# Altium schematic symbol library Interfaces.SchLib: 19 symbols
Pins are listed as number, name and electrical type; pins without a type are passive.

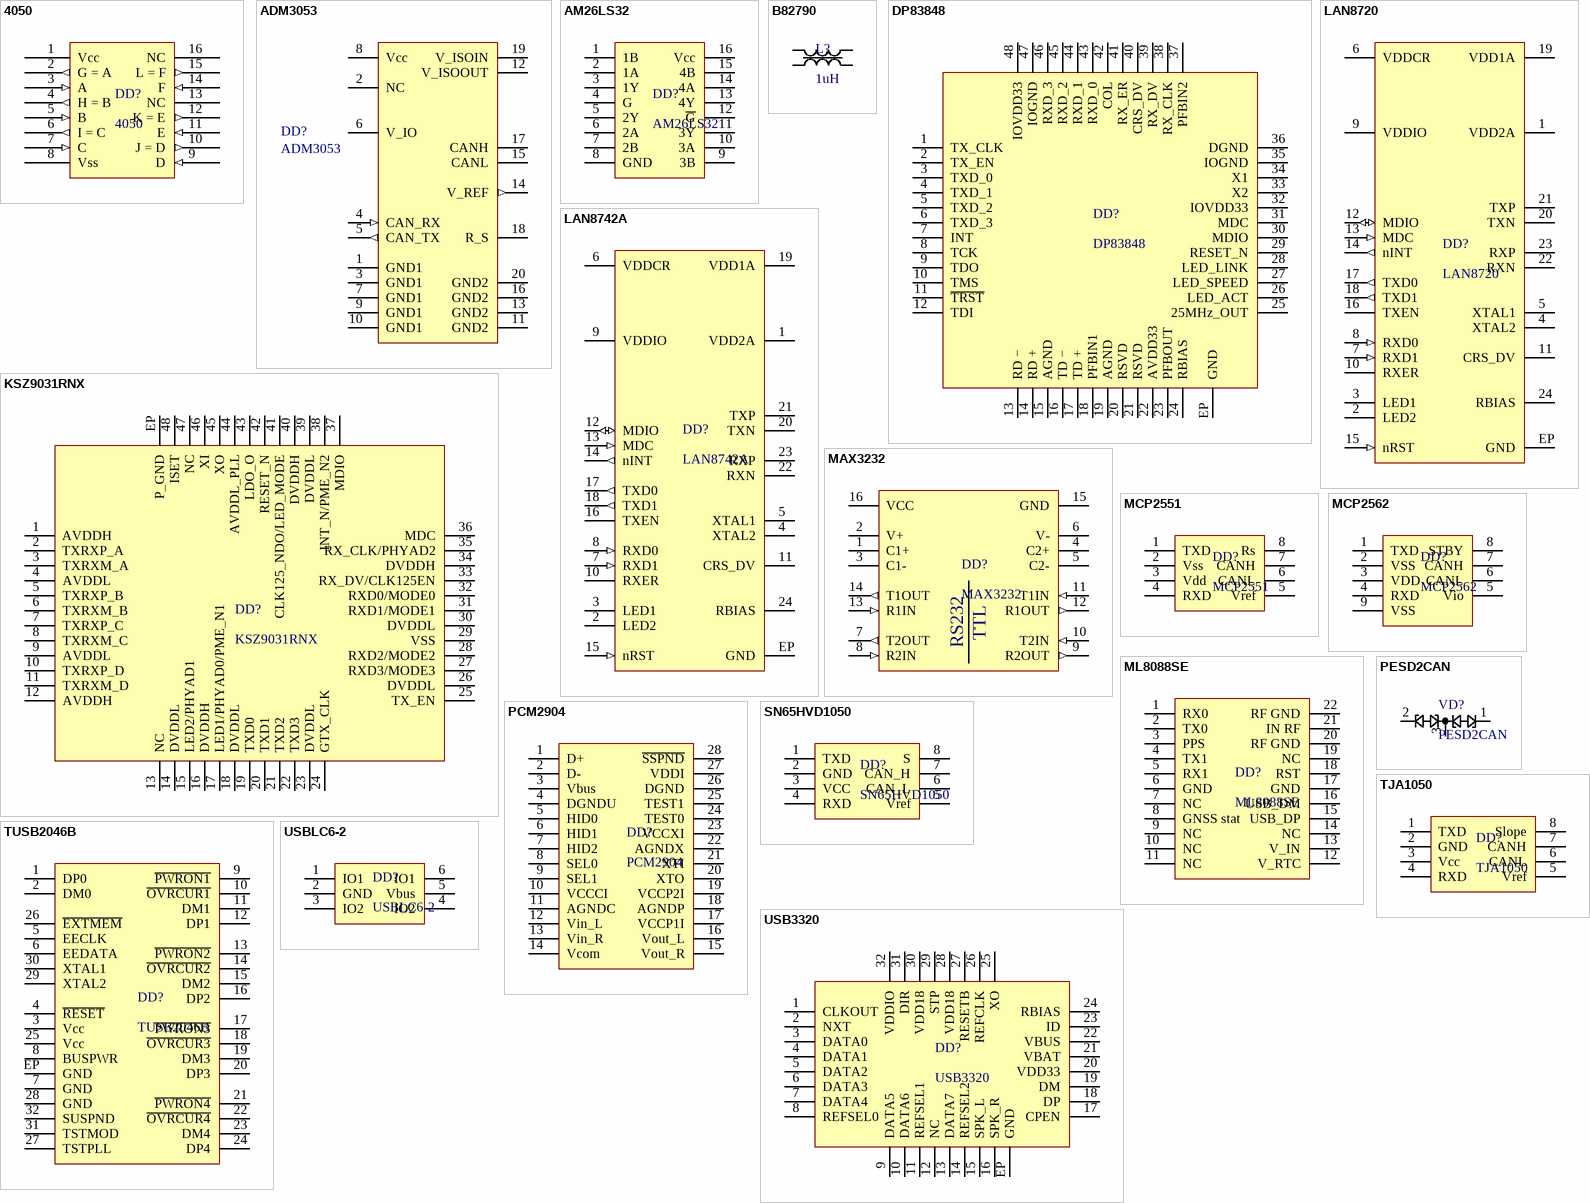
[diagram p0: symbols 4050 to USBLC6-2]

## 4050
designator DD?
6ch buffer
footprint SO-16
pins: 1 Vcc (power), 2 G = A (out), 3 A (in), 4 H = B (out), 5 B (in), 6 I = C (out), 7 C (in), 8 Vss (power), 9 D (in), 10 J = D (out), 11 E (in), 12 K = E (out), 13 NC, 14 F (in), 15 L = F (out), 16 NC

## ADM3053
designator DD?
Isolated CAN transceiver with isolated DC-DC
footprint SO-20W
pins: 1 GND1, 2 NC, 3 GND1, 4 CAN_RX (in), 5 CAN_TX (out), 6 V_IO, 7 GND1, 8 Vcc, 9 GND1, 10 GND1, 11 GND2, 12 V_ISOOUT, 13 GND2, 14 V_REF (out), 15 CANL, 16 GND2, 17 CANH, 18 R_S, 19 V_ISOIN, 20 GND2

## AM26LS32
designator DD?
RS-423 interface IC
footprint SO-16
pins: 1 1B (power), 2 1A (power), 3 1Y (power), 4 G (power), 5 2Y (power), 6 2A (power), 7 2B (power), 8 GND (power), 9 3B (power), 10 3A (power), 11 3Y (power), 12 ~{G} (power), 13 4Y (power), 14 4A (power), 15 4B (power), 16 Vcc (power)

## B82790
designator L?, comment 1uH
CAN double choke
footprint B82790
pins: 1, 2, 3, 4

## DP83848
designator DD?
Ethernet PHY
footprint PQFP-48
pins: 1 TX_CLK, 2 TX_EN, 3 TXD_0, 4 TXD_1, 5 TXD_2, 6 TXD_3, 7 INT, 8 TCK, 9 TDO, 10 TMS, 11 ~{TRST}, 12 TDI, 13 RD −, 14 RD +, 15 AGND, 16 TD −, 17 TD +, 18 PFBIN1, 19 AGND, 20 RSVD, 21 RSVD, 22 AVDD33, 23 PFBOUT, 24 RBIAS, 25 25MHz_OUT, 26 LED_ACT, 27 LED_SPEED, 28 LED_LINK, 29 RESET_N, 30 MDIO, 31 MDC, 32 IOVDD33, 33 X2, 34 X1, 35 IOGND, 36 DGND, 37 PFBIN2, 38 RX_CLK, 39 RX_DV, 40 CRS_DV, 41 RX_ER, 42 COL, 43 RXD_0, 44 RXD_1, 45 RXD_2, 46 RXD_3, 47 IOGND, 48 IOVDD33, EP GND

## KSZ9031RNX
designator DD?
Ethernet PHY 1Gbit/s
footprint QFN-48
pins: 1 AVDDH, 2 TXRXP_A, 3 TXRXM_A, 4 AVDDL, 5 TXRXP_B, 6 TXRXM_B, 7 TXRXP_C, 8 TXRXM_C, 9 AVDDL, 10 TXRXP_D, 11 TXRXM_D, 12 AVDDH, 13 NC, 14 DVDDL, 15 LED2/PHYAD1, 16 DVDDH, 17 LED1/PHYAD0/PME_N1, 18 DVDDL, 19 TXD0, 20 TXD1, 21 TXD2, 22 TXD3, 23 DVDDL, 24 GTX_CLK, 25 TX_EN, 26 DVDDL, 27 RXD3/MODE3, 28 RXD2/MODE2, 29 VSS, 30 DVDDL, 31 RXD1/MODE1, 32 RXD0/MODE0, 33 RX_DV/CLK125EN, 34 DVDDH, 35 RX_CLK/PHYAD2, 36 MDC, 37 MDIO, 38 INT_N/PME_N2, 39 DVDDL, 40 DVDDH, 41 CLK125_NDO/LED_MODE, 42 RESET_N, 43 LDO_O, 44 AVDDL_PLL, 45 XO, 46 XI, 47 NC, 48 ISET, EP P_GND

## LAN8720
designator DD?
Ethernet PHY
footprint QFN-24
pins: 1 VDD2A, 2 LED2, 3 LED1, 4 XTAL2, 5 XTAL1, 6 VDDCR, 7 RXD1 (in), 8 RXD0 (in), 9 VDDIO, 10 RXER, 11 CRS_DV, 12 MDIO (io), 13 MDC (in), 14 nINT (out), 15 nRST (in), 16 TXEN, 17 TXD0 (out), 18 TXD1 (out), 19 VDD1A, 20 TXN, 21 TXP, 22 RXN, 23 RXP, 24 RBIAS, EP GND

## LAN8742A
designator DD?
Ethernet PHY
footprint QFN-24
pins: 1 VDD2A, 2 LED2, 3 LED1, 4 XTAL2, 5 XTAL1, 6 VDDCR, 7 RXD1 (in), 8 RXD0 (in), 9 VDDIO, 10 RXER, 11 CRS_DV, 12 MDIO (io), 13 MDC (in), 14 nINT (out), 15 nRST (in), 16 TXEN, 17 TXD0 (out), 18 TXD1 (out), 19 VDD1A, 20 TXN, 21 TXP, 22 RXN, 23 RXP, 24 RBIAS, EP GND

## MAX3232
designator DD?
MAX3232 TTL/CMOS<-->RS-232
footprint TSSOP-16
pins: 1 C1+, 2 V+, 3 C1-, 4 C2+, 5 C2-, 6 V-, 7 T2OUT (out), 8 R2IN (in), 9 R2OUT (out), 10 T2IN (in), 11 T1IN (in), 12 R1OUT (out), 13 R1IN (in), 14 T1OUT (out), 15 GND (power), 16 VCC (power)
text: TTL; RS232

## MCP2551
designator DD?
CAN transceiver Microchip
footprint SO-8
pins: 1 TXD, 2 Vss, 3 Vdd, 4 RXD, 5 Vref, 6 CANL, 7 CANH, 8 Rs

## MCP2562
designator DD?
CAN transceiver Microchip
footprint DFN-8 3x3
pins: 1 TXD, 2 VSS, 3 VDD, 4 RXD, 5 Vio, 6 CANL, 7 CANH, 8 STBY, 9 VSS

## ML8088SE
designator DD?
GPS receiver
footprint ML8088SE
pins: 1 RX0, 2 TX0, 3 PPS, 4 TX1, 5 RX1, 6 GND, 7 NC, 8 GNSS stat, 9 NC, 10 NC, 11 NC, 12 V_RTC, 13 V_IN, 14 NC, 15 USB_DP, 16 USB_DM, 17 GND, 18 RST, 19 NC, 20 RF GND, 21 IN RF, 22 RF GND

## PCM2904
designator DD?
USB audio codec
footprint TSSOP-28 (SOP, 28-Leads, Body 10,00x5,30mm, Pitch 0,65mm, IPC High Density)
pins: 1 D+, 2 D-, 3 Vbus, 4 DGNDU, 5 HID0, 6 HID1, 7 HID2, 8 SEL0, 9 SEL1, 10 VCCCI, 11 AGNDC, 12 Vin_L, 13 Vin_R, 14 Vcom, 15 Vout_R, 16 Vout_L, 17 VCCP1I, 18 AGNDP, 19 VCCP2I, 20 XTO, 21 XTI, 22 AGNDX, 23 VCCXI, 24 TEST0, 25 TEST1, 26 DGND, 27 VDDI, 28 ~{SSPND}

## PESD2CAN
designator VD?
CAN bus ESD protection diode
footprint SOT-23-3
pins: 1, 2, 3

## SN65HVD1050
designator DD?
CAN transceiver
footprint SO-8
pins: 1 TXD, 2 GND, 3 VCC, 4 RXD, 5 Vref, 6 CAN_L, 7 CAN_H, 8 S

## TJA1050
designator DD?
CAN transceiver
footprint SO-8
pins: 1 TXD, 2 GND, 3 Vcc, 4 RXD, 5 Vref, 6 CANL, 7 CANH, 8 Slope

## TUSB2046B
designator DD?
4-port USB 1.1 hub
footprint VFQFPN-32
pins: 1 DP0, 2 DM0, 3 Vcc, 4 ~{RESET}, 5 EECLK, 6 EEDATA, 7 GND, 8 BUSPWR, 9 ~{PWRON1}, 10 ~{OVRCUR1}, 11 DM1, 12 DP1, 13 ~{PWRON2}, 14 ~{OVRCUR2}, 15 DM2, 16 DP2, 17 ~{PWRON3}, 18 ~{OVRCUR3}, 19 DM3, 20 DP3, 21 ~{PWRON4}, 22 ~{OVRCUR4}, 23 DM4, 24 DP4, 25 Vcc, 26 ~{EXTMEM}, 27 TSTPLL, 28 GND, 29 XTAL2, 30 XTAL1, 31 TSTMOD, 32 SUSPND, EP GND

## USB3320
designator DD?
USB 2.0 PHY + int.ESD
footprint QFN-32
pins: 1 CLKOUT, 2 NXT, 3 DATA0, 4 DATA1, 5 DATA2, 6 DATA3, 7 DATA4, 8 REFSEL0, 9 DATA5, 10 DATA6, 11 REFSEL1, 12 NC, 13 DATA7, 14 REFSEL2, 15 SPK_L, 16 SPK_R, 17 CPEN, 18 DP, 19 DM, 20 VDD33, 21 VBAT, 22 VBUS, 23 ID, 24 RBIAS, 25 XO, 26 REFCLK, 27 RESETB, 28 VDD18, 29 STP, 30 VDD18, 31 DIR, 32 VDDIO, EP GND

## USBLC6-2
designator DD?
USB ESD protection
footprint SOT-666
pins: 1 IO1, 2 GND, 3 IO2, 4 IO2, 5 Vbus, 6 IO1